# Altium schematic symbol library SPX3819S-L_TR.SchLib: 1 symbol
Pins are listed as number, name and electrical type; pins without a type are passive.

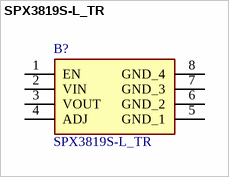
[diagram p0: symbol SPX3819S-L_TR]

## SPX3819S-L_TR
designator B?
LDO Voltage Regulators 500mA LOW NOISE LDO; Manufacturer_Name: MaxLinear, Inc.; Manufacturer_Part_Number: SPX3819S-L/TR; Geometry.Height: 1.75mm; Mouser Part Number: 701-SPX3819S-L/TR; Mouser Price/Stock: https://www.mouser.co.uk/ProductDetail/MaxLinear/SPX3819S-L-TR?qs=S%2FCBhQS5rCrzMX4peN58gQ%3D%3D; Datasheet Link: https://www.maxlinear.com/document?id=22106
footprint SOIC127P600X175-8N
pins: 1 EN, 2 VIN, 3 VOUT, 4 ADJ, 5 GND_1, 6 GND_2, 7 GND_3, 8 GND_4